# Altium schematic symbol library BC56.SchLib: 1 symbol
Pins are listed as number, name and electrical type; pins without a type are passive.

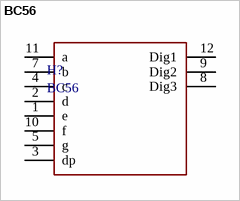
[diagram p0: symbol BC56]

## BC56
designator H?
14.22mm (0.56INCH) THREE DIGIT NUMERIC / DISPLAY
footprint BC56
pins: 1 e, 2 d, 3 dp, 4 c, 5 g, 7 b, 8 Dig3, 9 Dig2, 10 f, 11 a, 12 Dig1